# Altium schematic symbol library 0zre0200ff1a.SchLib: 1 symbol
Pins are listed as number, name and electrical type; pins without a type are passive.

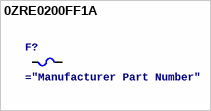
[diagram p0: symbol 0ZRE0200FF1A]

## 0ZRE0200FF1A
designator F?
Polymeric PTC Resettable Fuse 240V 2 A Ih Through Hole Radial, Disc
pins: 1, 2